# EAGLE library part LM3642 (library heck)
1.5-A Synchronous Boost LED Flash Driver with High-Side Current Source
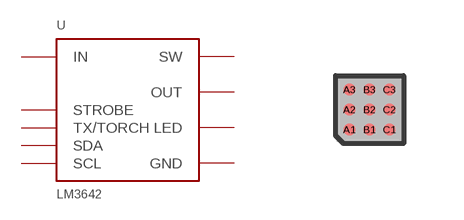
[diagram p48: symbol with the pads of DSBGA-9; footprint DSBGA-9]

Designator prefix U

## LM3642YZR  [DSBGA-9]
A1  OUT  pwr
A2  SW  pwr
A3  GND  pwr
B1  LED  out
B2  STROBE  in
B3  IN  pwr
C1  TX/TORCH  in
C2  SDA
C3  SCL  in

## Footprint DSBGA-9 (pad centres in mm)
smd 0.285 x 0.285: A1 -0.5,-0.5; A2 -0.5,0; A3 -0.5,0.5; B1 0,-0.5; B2 0,0; B3 0,0.5; C1 0.5,-0.5; C2 0.5,0; C3 0.5,0.5